# Altium footprint library Crystal.PcbLib: 3 footprints
Each footprint in its own frame and in the unit in brackets; x right, y up, seen from the top. Pads: shape width x height; smd on the part's side, far side on the other; paste and mask are expansions set on the pad; w line width, h text height; cw(c..) or ccw(c..) is an arc to the next point about the centre after c.
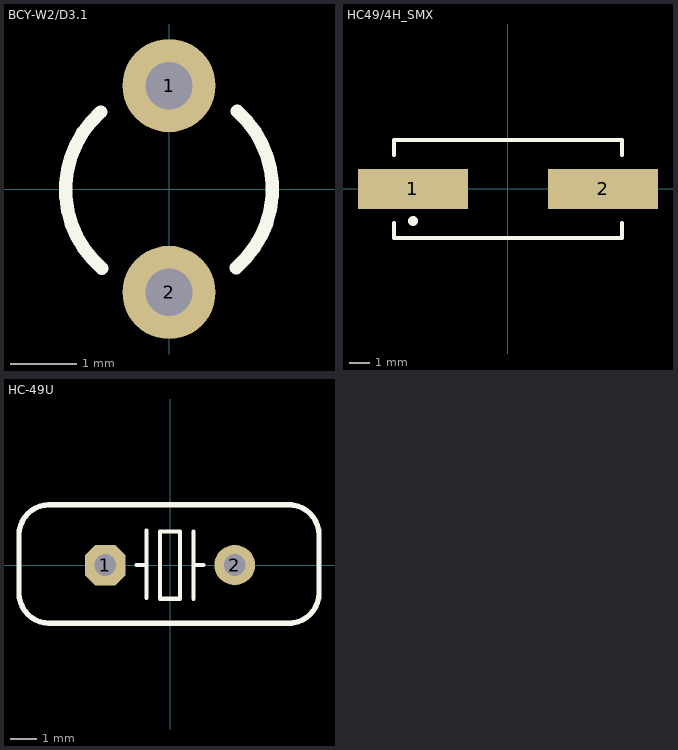
[diagram p0: the footprints below, top view; thin cyan lines are the x and y axes]

## BCY-W2/D3.1 [mil] "Crystal, Thru-Hole; 2 Leads; Body 3.1 x 8.2 mm (Dia.xH)"
height 322.83
pads (2):
  round 55 hole 28: 1(0,61.02) 2(0,-61.02)
Top Overlay:
  lines w7.87: -40.24,45.48 ccw(c0,-0.39) -39.6,-46.82 ; 39.6,-46.43 ccw(c0,0) 40.24,45.87
3D body "Crystal32768.STEP": height 375.79, standoff -48.43, extent -62.99,-67.91 63,67.92

## HC49/4H_SMX [mm] "Surface Mount Quartz Crystal; Body 13.4 (inc. leads) x 4.9 mm (LxW max)"
height 4.3
pads (2):
  rect 5.5x2 smd: 1(-4.75,0) 2(4.75,0)
Top Overlay:
  circle w0.25: c-4.75,-1.6 r0.125
  lines w0.2: -5.7,-1.7 -5.7,-2.45 5.7,-2.45 5.7,-1.7 ; -5.7,1.7 -5.7,2.45 5.7,2.45 5.7,1.7
3D body "Crystal_HC49.step": height 5.08, standoff 0, extent -6.7,-2.45 6.7,2.45

## HC-49U [mil] "Quartz Crystal, Thru-Hole; 2 Leads; Body 11.35 x 4.65 x 13.46 mm (LxWxH max)"
height 529.92
pads (2):
  oct 60x60 hole 32: 1(-96.06,0)
  round 60 hole 32: 2(96.06,0)
Top Overlay:
  lines w6: -50,0 -35,0 ; -35,-49 -35,51 ; 35,-50 35,50 ; 35,0 50,0 ; -15,-50 15,-50 15,50 -15,50 -15,-50
  lines w8: -180,-86.46 180,-86.46 ; -180,89.52 180,89.52 ; -179,-86.46 cw(c-179,-41.46) -224,-41.46 -224,44.52 cw(c-179,44.52) -179,89.52 ; 176,-86.46 ccw(c176,-41.46) 221,-41.46 221,44.52 ccw(c176,44.52) 176,89.52
3D body "HC-49U.STEP": height 137.8, standoff -157.48, extent -224.41,-90.55 222.44,92.52